# EAGLE library part 649024221732 (library Wurth_Elektronik_Electromechanic_Wire_to_Board_Connectors_rev15c)
WR-MPC4 4.20mm Male Dual Row Vertical Header with Mounting Pegs, 24 Pins=>Code : Con_WTB_MPC4_2_PCB_649024221732 <http://katalog.we-online.de/media/thumbs2/eican/thb_Con_WTB_MPC4_2_PCB_6490xx221732_pf2.jpg> Details see: http://katalog.we-online.de/en/em/649_0xx_221_732 Created 2014-06-06, Karrer Zheng 2014 (C) Würth Elektronik
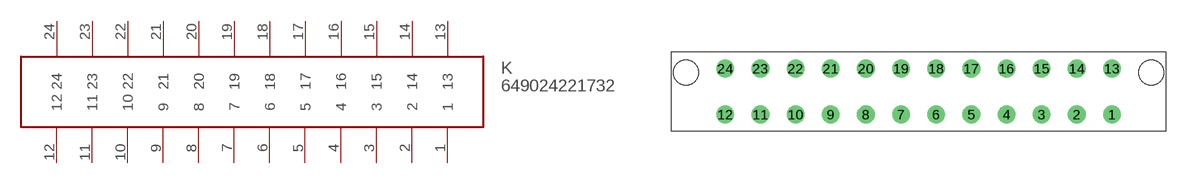
[diagram p322: symbol with the pads of 649024221732; footprint 649024221732]

Designator prefix K

## 649024221732  [649024221732]
1  1
2  2
3  3
4  4
5  5
6  6
7  7
8  8
9  9
10  10
11  11
12  12
13  13
14  14
15  15
16  16
17  17
18  18
19  19
20  20
21  21
22  22
23  23
24  24

## Footprint 649024221732 (pad centres in mm)
WR-MPC4 4.20mm Male Dual Row Vertical Header with Mounting Pegs, 24 Pins
drill 1.4: 1 0,-2.75; 2 -4.2,-2.75; 3 -8.4,-2.75; 4 -12.6,-2.75; 5 -16.8,-2.75; 6 -21,-2.75; 7 -25.2,-2.75; 8 -29.4,-2.75; 9 -33.6,-2.75; 10 -37.8,-2.75; 11 -42,-2.75; 12 -46.2,-2.75; 13 0,2.75; 14 -4.2,2.75; 15 -8.4,2.75; 16 -12.6,2.75; 17 -16.8,2.75; 18 -21,2.75; 19 -25.2,2.75; 20 -29.4,2.75; 21 -33.6,2.75; 22 -37.8,2.75; 23 -42,2.75; 24 -46.2,2.75
hole 3 at -50.9,2.29
hole 3 at 4.7,2.29